# EAGLE library part TRIL-2CM (library gost_relay)
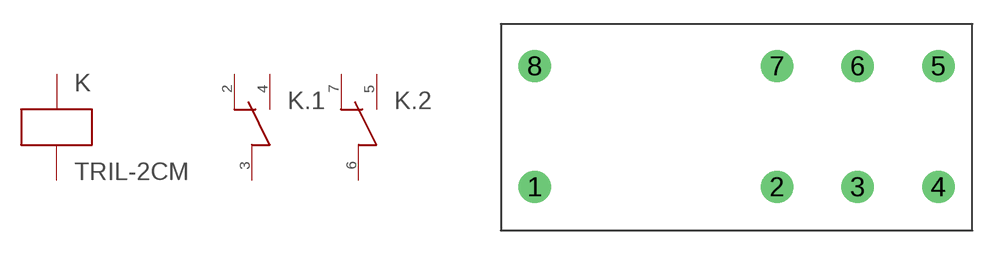
[diagram p0: symbol with the pads of TRIL-2CM(-1CE); footprint TRIL-2CM(-1CE)]

Designator prefix K; gates G$1=K .1=S2 .2=S2

## TRIL-2CM  [TRIL-2CM(-1CE)]
1  G$1:P$1
2  .1:NC
3  .1:C
4  .1:NO
5  .2:NO
6  .2:C
7  .2:NC
8  G$1:P$2

## Footprint TRIL-2CM(-1CE) (pad centres in mm)
drill 1.3 pad 2: 1 -12.5,-3.5; 2 2.5,-3.5; 3 7.5,-3.5; 4 12.5,-3.5; 5 12.5,4; 6 7.5,4; 7 2.5,4; 8 -12.5,4